# EAGLE library part MAX17048G (library MAX17048G)
Check availability <https://pricing.snapeda.com/parts/MAX17048G/Maxim%20Integrated/view-part?ref=eda>
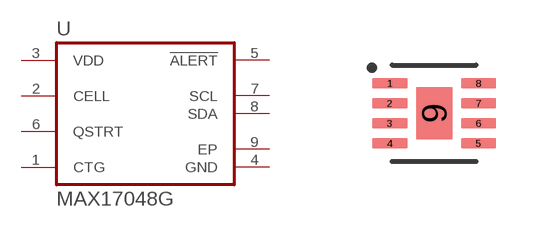
[diagram p0: symbol with the pads of SON50P200X200X80-9N; footprint SON50P200X200X80-9N]

Designator prefix U

## MAX17048G (AVAILABILITY: In Stock; DESCRIPTION: Battery Battery Monitor IC Lithium Ion 8-TDFN-EP (2x2); MF: Maxim Integrated; MP: MAX17048G; PACKAGE: TDFN-8 Maxim; PRICE: None; PURCHASE-URL: https://pricing.snapeda.com/search/part/MAX17048G/?ref=eda)  [SON50P200X200X80-9N]
1  CTG  pwr
2  CELL  pwr
3  VDD  pwr
4  GND  pwr
5  !ALERT  out
6  QSTRT  in
7  SCL  in
8  SDA
9  EP  pwr

## Footprint SON50P200X200X80-9N (pad centres in mm)
smd 0.889 x 0.27: 1 -1.112,0.75; 2 -1.112,0.25; 3 -1.112,-0.25; 4 -1.112,-0.75; 5 1.112,-0.75; 6 1.112,-0.25; 7 1.112,0.25; 8 1.112,0.75
smd 0.9 x 1.3: 9 0,0